# Altium schematic symbol library HC05.SchLib: 1 symbol
Pins are listed as number, name and electrical type; pins without a type are passive.

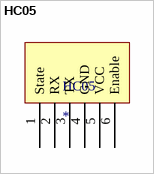
[diagram p0: symbol HC05]

## HC05
designator HC05
footprint HC05
pins: 1 State, 2 RX, 3 TX, 4 GND, 5 VCC, 6 Enable